# Altium footprint library SOT23-5(2.9x1.6).PcbLib: 1 footprints
Each footprint in its own frame and in the unit in brackets; x right, y up, seen from the top. Pads: shape width x height; smd on the part's side, far side on the other; paste and mask are expansions set on the pad; w line width, h text height; cw(c..) or ccw(c..) is an arc to the next point about the centre after c.
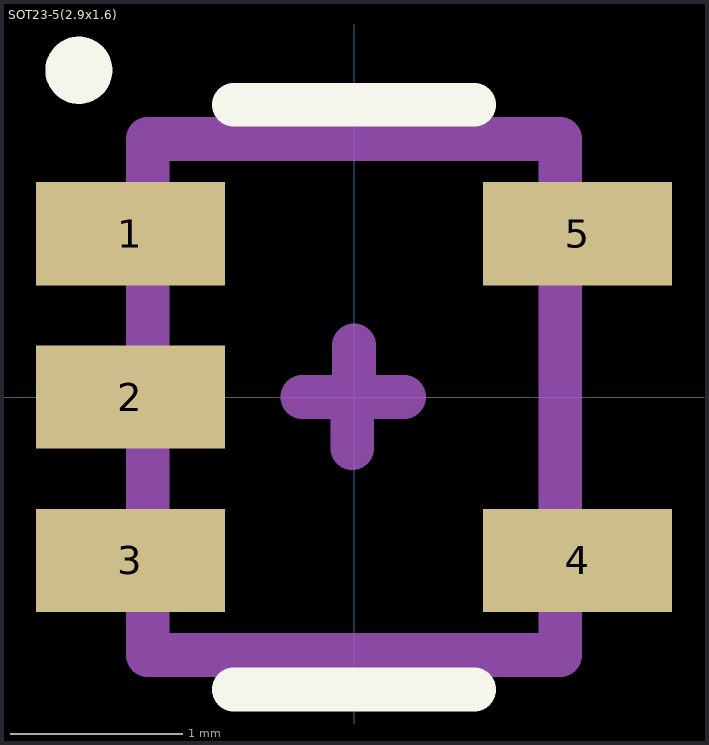
[diagram p0: the footprint, top view; thin cyan lines are the x and y axes]

## SOT23-5(2.9x1.6) [mm]
pads (5):
  rect 1.1x0.6 smd mask+0.051: 1(-1.3,0.95) 2(-1.3,0) 3(-1.3,-0.95) 4(1.3,-0.95) 5(1.3,0.95)
Top Overlay:
  circle w0.254: c-1.6,1.9 r0.068
  lines w0.254: -0.7,-1.7 0.7,-1.7 ; -0.7,1.7 0.7,1.7
Top Designator:
  text ".Designator" at -7.618,-0.374 h1.52
3D Body:
  lines w0.254: -1.2,-1.5 -1.2,1.5 1.2,1.5 1.2,-1.5 -1.2,-1.5
Center Cross:
  lines w0.254: -0.3,0 0,0 0,0.3 ; -0.01,-0.298 -0.01,0.002 ; -0.01,0 0.29,0
3D body "SOT23-5.step": height 1.1, standoff 0, extent -1.25,-1.5 1.25,1.5